# Altium schematic symbol library LDO.SchLib: 9 symbols
Pins are listed as number, name and electrical type; pins without a type are passive.

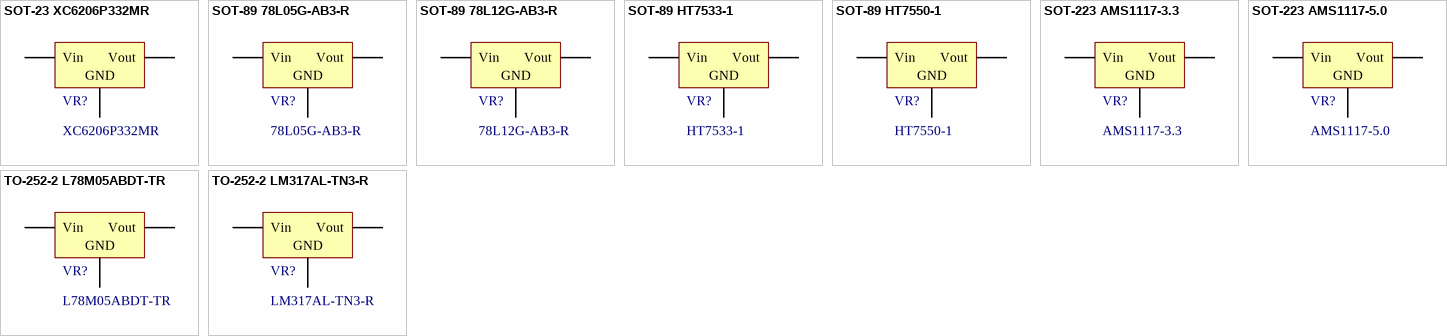
[diagram p0: symbols SOT-23 XC6206P332MR to TO-252-2 LM317AL-TN3-R]

## SOT-23 XC6206P332MR
designator VR?, comment XC6206P332MR
低压差线性稳压(LDO); ComponentLink1Description: 供应商链接; ComponentLink1URL: http://www.szlcsc.com/product/details_5896.html; Package: SOT-23; Supplier: LC; SuppliersPartNumber: C5446
footprint SOT-23-3L (http://www.aosmd.com/res/packaging_information/SOT-23-3L.pdf)
pins: 1 GND, 2 Vout, 3 Vin

## SOT-89 78L05G-AB3-R
designator VR?, comment 78L05G-AB3-R
低压差线性稳压(LDO); ComponentLink1Description: 供应商链接; ComponentLink1URL: http://www.szlcsc.com/product/details_72235.html; Package: SOT-89; Supplier: LC; SuppliersPartNumber: C71136
footprint SOT-89(SOT-89-3)
pins: 1 Vout, 2 GND, 3 Vin

## SOT-89 78L12G-AB3-R
designator VR?, comment 78L12G-AB3-R
低压差线性稳压(LDO); ComponentLink1Description: 供应商链接; ComponentLink1URL: http://www.szlcsc.com/product/details_76626.html; Package: SOT-89; Supplier: LC; SuppliersPartNumber: C75501
footprint SOT-89(SOT-89-3)
pins: 1 Vout, 2 GND, 3 Vin

## SOT-89 HT7533-1
designator VR?, comment HT7533-1
低压差线性稳压(LDO); ComponentLink1Description: 供应商链接; ComponentLink1URL: http://www.szlcsc.com/product/details_14949.html; Package: SOT-89; Supplier: LC; SuppliersPartNumber: C14289
footprint SOT-89(SOT-89-3)
pins: 1 GND, 2 Vin, 3 Vout

## SOT-89 HT7550-1
designator VR?, comment HT7550-1
低压差线性稳压(LDO); ComponentLink1Description: 供应商链接; ComponentLink1URL: http://www.szlcsc.com/product/details_16788.html; Package: SOT-89; Supplier: LC; SuppliersPartNumber: C16106
footprint SOT-89(SOT-89-3)
pins: 1 GND, 2 Vin, 3 Vout

## SOT-223 AMS1117-3.3
designator VR?, comment AMS1117-3.3
低压差线性稳压(LDO); ComponentLink1Description: 供应商链接; ComponentLink1URL: http://www.szlcsc.com/product/details_6652.html; Package: SOT-223; Supplier: LC; SuppliersPartNumber: C6186
footprint SOT-223
pins: 1 GND, 2 Vout, 3 Vin

## SOT-223 AMS1117-5.0
designator VR?, comment AMS1117-5.0
低压差线性稳压(LDO); ComponentLink1Description: 供应商链接; ComponentLink1URL: http://www.szlcsc.com/product/details_6653.html; Package: SOT-223; Supplier: LC; SuppliersPartNumber: C6187
footprint SOT-223
pins: 1 GND, 2 Vout, 3 Vin

## TO-252-2 L78M05ABDT-TR
designator VR?, comment L78M05ABDT-TR
低压差线性稳压(LDO); ComponentLink1Description: 供应商链接; ComponentLink1URL: http://www.szlcsc.com/product/details_59107.html; Package: TO-252-2; Supplier: LC; SuppliersPartNumber: C58069
footprint TO-252-2-180 (180度编带包装)
pins: 1 Vin, 2 GND, 3 Vout

## TO-252-2 LM317AL-TN3-R
designator VR?, comment LM317AL-TN3-R
低压差线性稳压(LDO); ComponentLink1Description: 供应商链接; ComponentLink1URL: http://www.szlcsc.com/product/details_76635.html; Package: TO-252-2; Supplier: LC; SuppliersPartNumber: C75510
footprint TO-252-2-180 (180度编带包装)
pins: 1 GND, 2 Vout, 3 Vin